# Altium schematic symbol library ClockOscillatorQuartz.SchLib: 2 symbols
Pins are listed as number, name and electrical type; pins without a type are passive.

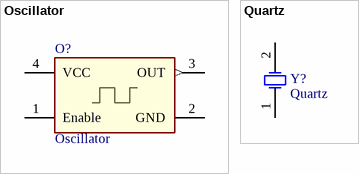
[diagram p0: symbols Oscillator to Quartz]

## Oscillator
designator O?
pins: 1 Enable, 2 GND (power), 3 OUT (out), 4 VCC (power)

## Quartz
designator Y?
Quartz Crystal
pins: 1 OSC1, 2 OSC2